# EAGLE library part N25Q128A13 (library micron)
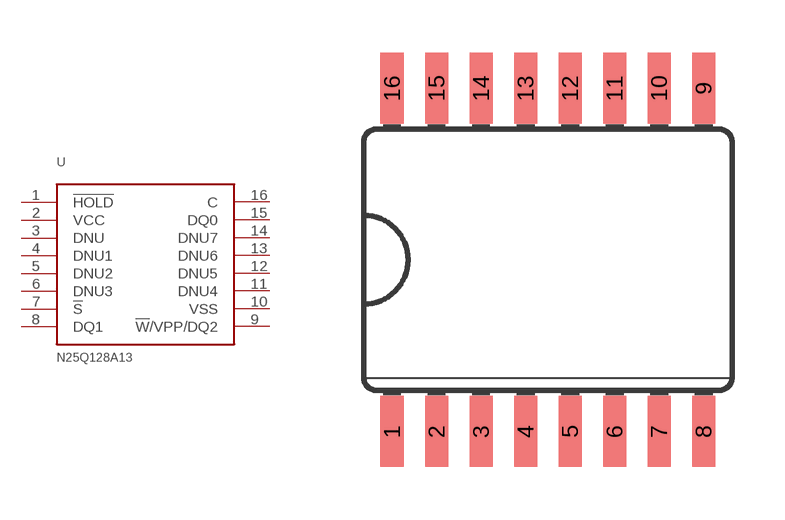
[diagram p0: symbol with the pads of SO16L; footprint SO16L]

Designator prefix -

## N25Q128A13E  [SO16L]
1  !HOLD!
2  VCC
3  DNU
4  DNU1
5  DNU2
6  DNU3
7  !S!
8  DQ1
9  !W!/VPP/DQ2
10  VSS
11  DNU4
12  DNU5
13  DNU6
14  DNU7
15  DQ0
16  C

## Footprint SO16L (pad centres in mm)
Small Outline Package .300 SIOC Source: http://www.maxim-ic.com/cgi-bin/packages?pkg=16%2FSOIC%2E300&Type=Max
smd 0.66 x 2.032: 1 -4.445,-4.902; 2 -3.175,-4.902; 3 -1.905,-4.902; 4 -0.635,-4.902; 5 0.635,-4.902; 6 1.905,-4.902; 7 3.175,-4.902; 8 4.445,-4.902; 9 4.445,4.902; 10 3.175,4.902; 11 1.905,4.902; 12 0.635,4.902; 13 -0.635,4.902; 14 -1.905,4.902; 15 -3.175,4.902; 16 -4.445,4.902